# Altium schematic symbol library RES,3R3,1%,0.25W,0805.Schlib: 1 symbol
Pins are listed as number, name and electrical type; pins without a type are passive.

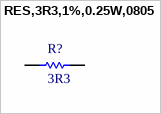
[diagram p0: symbol RES,3R3,1%,0.25W,0805]

## RES,3R3,1%,0.25W,0805
designator R?, comment 3R3
3.3 Ohms ±1% 0.25W, 1/4W Chip Resistor 0805 (2012 Metric) Automotive AEC-Q200, Moisture Resistant Thick Film
pins: 1, 2